# Altium schematic symbol library SplitHE_COPY_073026.SchLib: 24 symbols
Pins are listed as number, name and electrical type; pins without a type are passive.

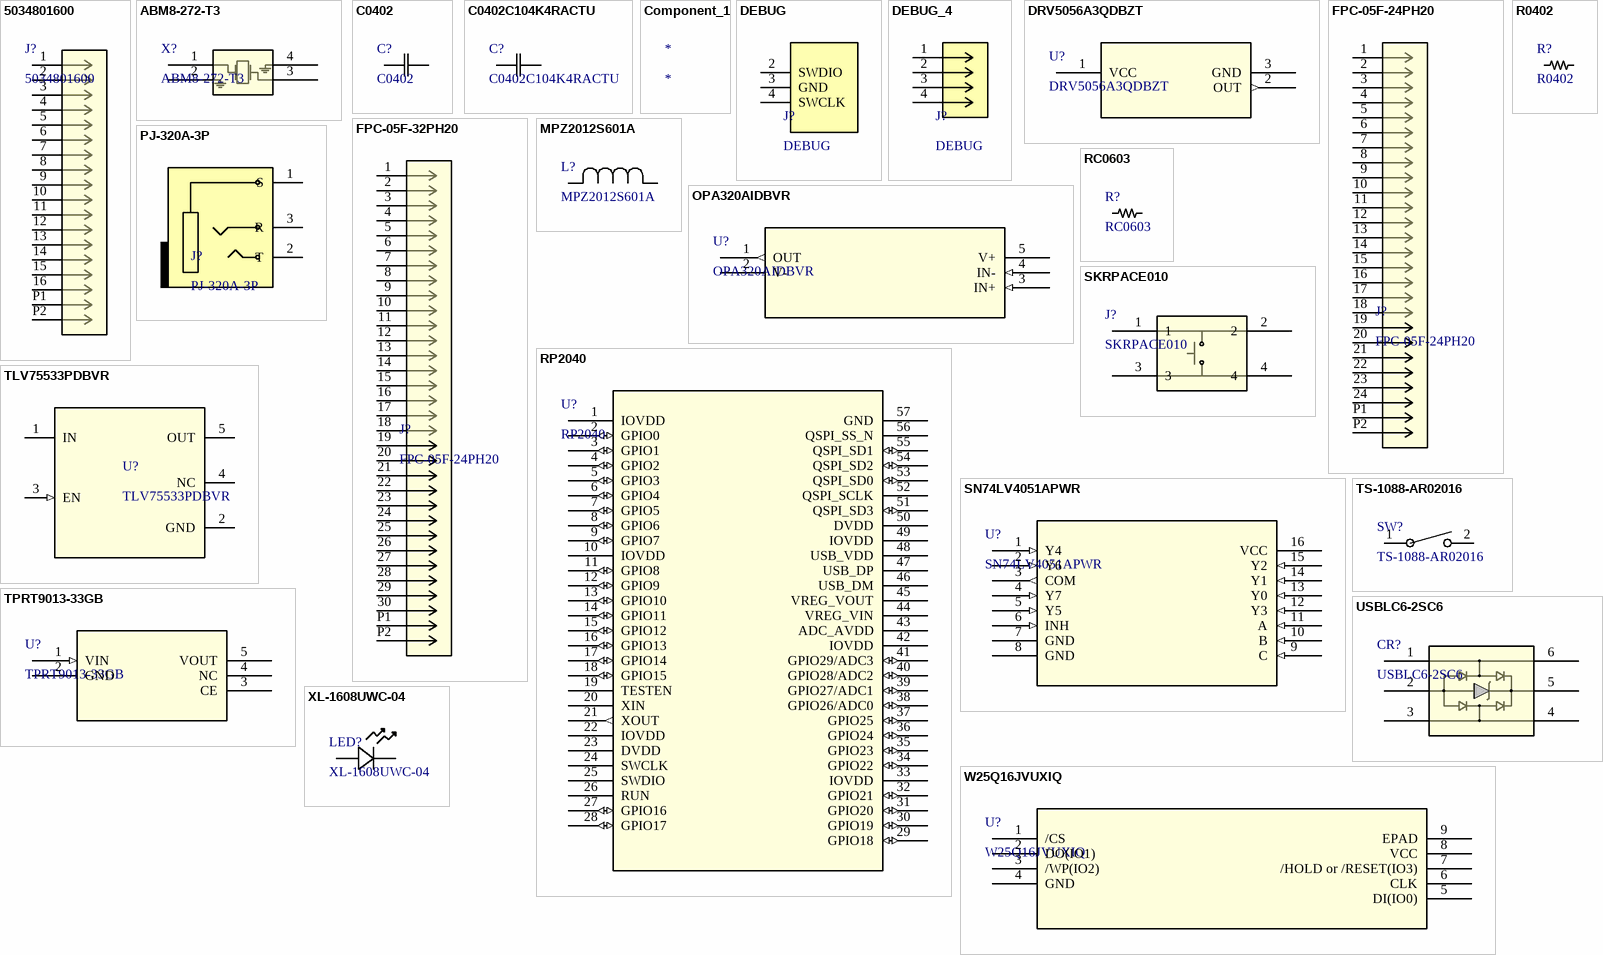
[diagram p0: symbols 5034801600 to XL-1608UWC-04]

## 5034801600
designator J?
Easy-On FFC/FPC Connector, 0.50mm Pitch, FBH1 Series, Right-Angle, Dual Contact, 1.00mm Height, 16 Circuits, Gold over Nickel Plating; Manufacturer_Name: Molex Connector Corporation; Copyright: Copyright (C) 2025 Ultra Librarian. All rights reserved.; Manufacturer_Part_Number: 5034801600; Datasheet: https://www.molex.com/en-us/products/part-detail-pdf/5034801600?display=pdf; RefDes: RefDes; Type: Type
footprint CON_5034801600_MOL
footprint 5034801600
pins: 1, 2, 3, 4, 5, 6, 7, 8, 9, 10, 11, 12, 13, 14, 15, 16, P1, P2

## ABM8-272-T3
designator X?
No Description Available; Manufacturer_Name: Abracon; Type: Crystals; Copyright: Copyright (C) 2025 Ultra Librarian. All rights reserved.; Manufacturer_Part_Number: ABM8-272-T3; RefDes: RefDes
footprint ABM8-272-T3_ABR
pins: 1, 2, 3, 4

## C0402
designator C?
SMD Comm X7R, Ceramic, SMD, MLCC, Temperature Stable, 0402; Manufacturer_Name: Kemet; Manufacturer_Part_Number: C0402C104K4RACTU; Copyright: Copyright (C) 2025 Ultra Librarian. All rights reserved.; Datasheet: https://content.kemet.com/datasheets/KEM_C1002_X7R_SMD.pdf
footprint CAPC10555_55N_KEM
pins: 1, 2

## C0402C104K4RACTU
designator C?
SMD Comm X7R, Ceramic, 0.1 uF, 10%, 16 VDC, X7R, SMD, MLCC, Temperature Stable, Class II, 0402; Manufacturer_Name: Kemet; Copyright: Copyright (C) 2025 Ultra Librarian. All rights reserved.; Manufacturer_Part_Number: C0402C104K4RACTU; Datasheet: https://content.kemet.com/datasheets/KEM_C1002_X7R_SMD.pdf
footprint CAPC10555_55N_KEM
pins: 1, 2

## Component_1
designator *

## DEBUG
designator J?
Back up plan for serial wire debugging
pins: 2 SWDIO, 3 GND, 4 SWCLK

## DEBUG_4
designator J?, comment DEBUG
Back up plan for debugging
footprint SW_Debugger_4P
pins: 1 2, 2, 3, 4

## DRV5056A3QDBZT
designator U?
Ratiometric unipolar linear hall effect sensor with analog output 3-SOT-23 -40 to 125; Manufacturer_Name: Texas Instruments; Copyright: Copyright (C) 2025 Ultra Librarian. All rights reserved.; Manufacturer_Part_Number: DRV5056A3QDBZT; Datasheet: https://www.ti.com/lit/gpn/drv5056; RefDes: RefDes; Type: Type
footprint DBZ3_TEX
pins: 1 VCC (power), 2 OUT (out), 3 GND (power)

## FPC-05F-24PH20
designator J?
24 Pin 0.5 Pitch FPC connector
footprint FPC-05F-24PH20
pins: 1, 2, 3, 4, 5, 6, 7, 8, 9, 10, 11, 12, 13, 14, 15, 16, 17, 18, 19, 20, 21, 22, 23, 24, P1, P2

## FPC-05F-32PH20
designator J?, comment FPC-05F-24PH20
32 Pin 0.5 Pitch FPC connector
footprint FPC-05F-30PH20
pins: 1, 2, 3, 4, 5, 6, 7, 8, 9, 10, 11, 12, 13, 14, 15, 16, 17, 18, 19, 20, 21, 22, 23, 24, 25, 26, 27, 28, 29, 30, P1, P2

## MPZ2012S601A
designator L?
No Description Available; Manufacturer_Name: TDK; Copyright: Copyright (C) 2025 Ultra Librarian. All rights reserved.; Manufacturer_Part_Number: MPZ2012S601A
footprint IND_MPZ2012_TDK
pins: 1, 2

## OPA320AIDBVR
designator U?
Precision, zero-crossover, 20-MHz, 0.9-pA Ib, RRIO, CMOS operational amplifier 5-SOT-23 -40 to 125; Manufacturer_Name: Texas Instruments; Copyright: Copyright (C) 2025 Ultra Librarian. All rights reserved.; Manufacturer_Part_Number: OPA320AIDBVR; Datasheet: https://www.ti.com/lit/gpn/opa320; RefDes: RefDes; Type: Type
footprint DBV5
pins: 1 OUT (out), 2 V- (power), 3 IN+ (in), 4 IN- (in), 5 V+ (power)

## PJ-320A-3P
designator J?
3.5mm Audio Jack
pins: 1 S, 2 T, 3 R

## R0402
designator R?
CPF 0402 RL; Manufacturer_Name: TE Connectivity; Manufacturer_Part_Number: CPF0402B33RE1; Copyright: Copyright (C) 2025 Ultra Librarian. All rights reserved.; Datasheet: https://www.te.com/commerce/DocumentDelivery/DDEController?Action=srchrtrv&DocNm=1773200&DocType=Data+Sheet&DocLang=English&PartCntxt=1-1879208-3&DocFormat=pdf
footprint RES0402_CPF_TYCO_TYC
pins: 1, 2

## RC0603
designator R?
RES SMD 47K OHM 1% 1/10W 0603; Manufacturer_Name: Yageo; Manufacturer_Part_Number: RC0603FR-0747KL; Copyright: Copyright (C) 2025 Ultra Librarian. All rights reserved.
footprint RC0603N_YAG
pins: 1, 2

## RP2040
designator U?
No Description Available; Manufacturer_Name: Raspberry Pi; Copyright: Copyright (C) 2025 Ultra Librarian. All rights reserved.; Manufacturer_Part_Number: RP2040; RefDes: RefDes; Type: Type
footprint IC57_RP2040
pins: 1 IOVDD (power), 2 GPIO0 (io), 3 GPIO1 (io), 4 GPIO2 (io), 5 GPIO3 (io), 6 GPIO4 (io), 7 GPIO5 (io), 8 GPIO6 (io), 9 GPIO7 (io), 10 IOVDD (power), 11 GPIO8 (io), 12 GPIO9 (io), 13 GPIO10 (io), 14 GPIO11 (io), 15 GPIO12 (io), 16 GPIO13 (io), 17 GPIO14 (io), 18 GPIO15 (io), 19 TESTEN, 20 XIN, 21 XOUT (out), 22 IOVDD (power), 23 DVDD (power), 24 SWCLK, 25 SWDIO, 26 RUN, 27 GPIO16 (io), 28 GPIO17 (io), 29 GPIO18 (io), 30 GPIO19 (io), 31 GPIO20 (io), 32 GPIO21 (io), 33 IOVDD (power), 34 GPIO22 (io), 35 GPIO23 (io), 36 GPIO24 (io), 37 GPIO25 (io), 38 GPIO26/ADC0 (io), 39 GPIO27/ADC1 (io), 40 GPIO28/ADC2 (io), 41 GPIO29/ADC3 (io), 42 IOVDD (power), 43 ADC_AVDD (power), 44 VREG_VIN, 45 VREG_VOUT (power), 46 USB_DM, 47 USB_DP, 48 USB_VDD (power), 49 IOVDD (power), 50 DVDD (power), 51 QSPI_SD3 (io), 52 QSPI_SCLK, 53 QSPI_SD0 (io), 54 QSPI_SD2 (io), 55 QSPI_SD1 (io), 56 QSPI_SS_N, 57 GND (power)

## SKRPACE010
designator J?
No Description Available; Manufacturer_Name: Alps Electric; Copyright: Copyright (C) 2025 Ultra Librarian. All rights reserved.; Manufacturer_Part_Number: SKRPACE010; RefDes: RefDes; Type: Type
footprint SW_SKRPACE010_AAL
pins: 1, 2, 3, 4

## SN74LV4051APWR
designator U?
5V 8:1 one-channel general-purpose analog multiplexer 16-TSSOP -40 to 85; Manufacturer_Name: Texas Instruments; Copyright: Copyright (C) 2025 Ultra Librarian. All rights reserved.; Manufacturer_Part_Number: SN74LV4051APWR; Datasheet: https://www.ti.com/lit/gpn/sn74lv4051a; RefDes: RefDes; Type: Type
footprint PW16
pins: 1 Y4 (in), 2 Y6 (in), 3 COM (out), 4 Y7 (in), 5 Y5 (in), 6 INH (in), 7 GND (power), 8 GND (power), 9 C (in), 10 B (in), 11 A (in), 12 Y3 (in), 13 Y0 (in), 14 Y1 (in), 15 Y2 (in), 16 VCC (power)

## TLV75533PDBVR
designator U?
500mA high-PSRR low-I<sub>Q</sub> low-dropout voltage regulator with enable 5-SOT-23 -40 to 125; Manufacturer_Name: Texas Instruments; TYPE: TYPE; RefDes: RefDes; Copyright: Copyright (C) 2025 Ultra Librarian. All rights reserved.; Manufacturer_Part_Number: TLV75533PDBVR; Datasheet: https://www.ti.com/lit/gpn/tlv755p
footprint DBV0005A_N
pins: 1 IN (power), 2 GND (power), 3 EN (in), 4 NC, 5 OUT (power)

## TPRT9013-33GB
designator U?
No Description Available; Manufacturer_Name: Tech Public; Type: Power Management; Copyright: Copyright (C) 2025 Ultra Librarian. All rights reserved.; Manufacturer_Part_Number: TPRT9013-33GB; RefDes: RefDes
footprint SOT23-5_TCP
pins: 1 VIN (in), 2 GND (power), 3 CE, 4 NC, 5 VOUT (power)

## TS-1088-AR02016
designator SW?
Description; Manufacturer_Name: Xunpu; Copyright: Copyright (C) 2026 Ultra Librarian. All rights reserved.; Manufacturer_Part_Number: TS-1088-AR02016
footprint SW_TS-1088_XNP
pins: 1, 2

## USBLC6-2SC6
designator CR?
ESD Protection for USB 2.0 High Speed; Manufacturer_Name: STMicroelectronics; Copyright: Copyright (C) 2025 Ultra Librarian. All rights reserved.; Manufacturer_Part_Number: USBLC6-2SC6; Datasheet: https://www.st.com/resource/en/datasheet/usblc6-2.pdf; RefDes: RefDes; Type: Type
footprint SOT23-6L_STM
pins: 1, 2, 3, 4, 5, 6

## W25Q16JVUXIQ
designator U?
No Description Available; Manufacturer_Name: Winbond; Copyright: Copyright (C) 2025 Ultra Librarian. All rights reserved.; Manufacturer_Part_Number: W25Q16JVUXIQ; RefDes: RefDes; Type: Type
footprint W25Q16JVUXIQ_WIN
pins: 1 /CS, 2 DO(IO1), 3 /WP(IO2), 4 GND, 5 DI(IO0), 6 CLK, 7 /HOLD or /RESET(IO3), 8 VCC, 9 EPAD

## XL-1608UWC-04
designator LED?
No Description Available; Manufacturer_Name: XINGLIGHT; Copyright: Copyright (C) 2025 Ultra Librarian. All rights reserved.; Manufacturer_Part_Number: XL-1608UWC-04
footprint LED_XL-1608_XLG
pins: 1 CATHODE, 2 ANODE